# Altium schematic symbol library MCUs.SchLib: 3 symbols
Pins are listed as number, name and electrical type; pins without a type are passive.

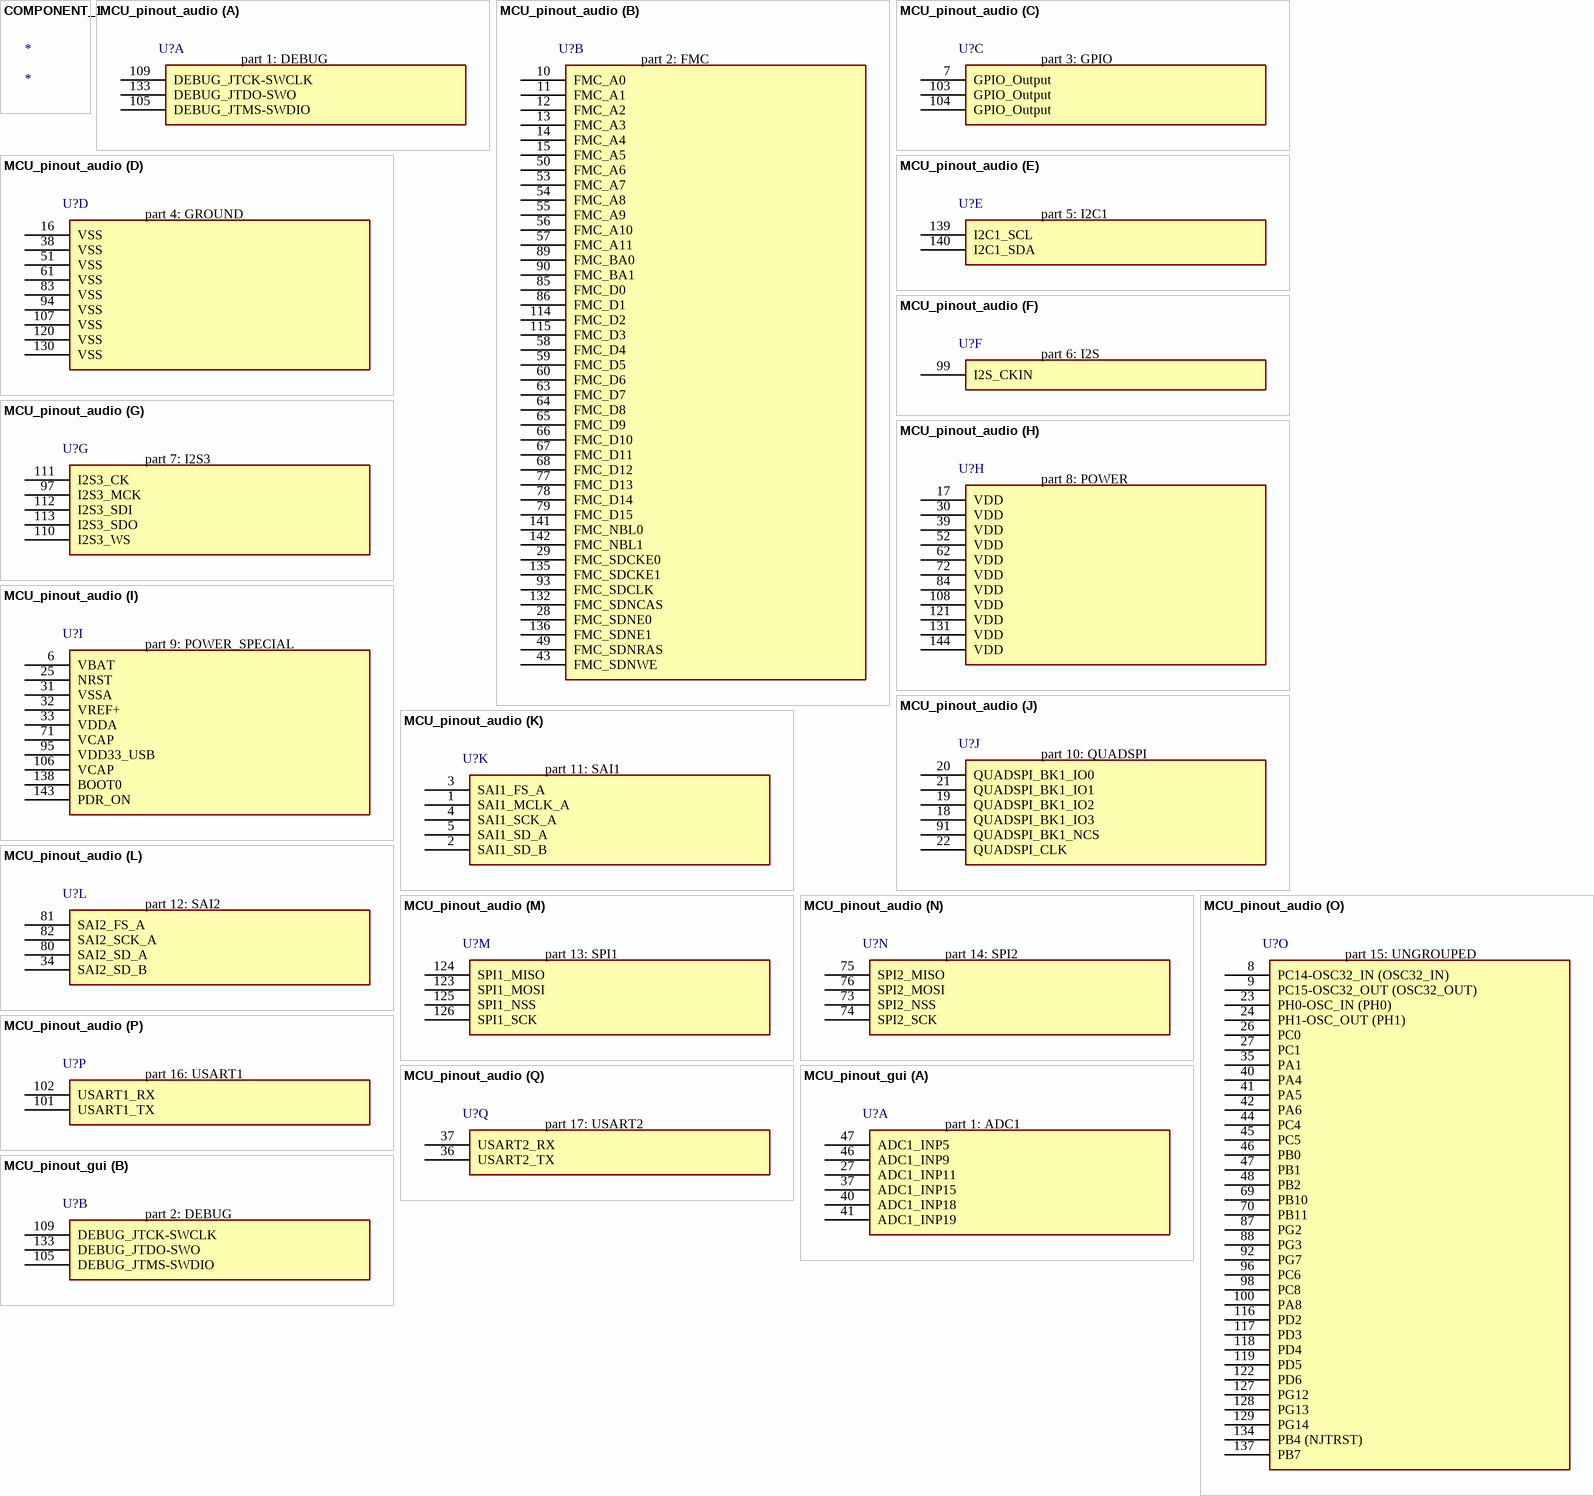
[diagram p0: symbols COMPONENT_1 to MCU_pinout_gui]

## COMPONENT_1
designator *

## MCU_pinout_audio
designator U?  (value not drawn)
MCU with 144 pins / Grouped by function
footprint QFP50P2200X2200X160-144N
part A pins: 105 DEBUG_JTMS-SWDIO, 109 DEBUG_JTCK-SWCLK, 133 DEBUG_JTDO-SWO
part B pins: 10 FMC_A0, 11 FMC_A1, 12 FMC_A2, 13 FMC_A3, 14 FMC_A4, 15 FMC_A5, 28 FMC_SDNE0, 29 FMC_SDCKE0, 43 FMC_SDNWE, 49 FMC_SDNRAS, 50 FMC_A6, 53 FMC_A7, 54 FMC_A8, 55 FMC_A9, 56 FMC_A10, 57 FMC_A11, 58 FMC_D4, 59 FMC_D5, 60 FMC_D6, 63 FMC_D7, 64 FMC_D8, 65 FMC_D9, 66 FMC_D10, 67 FMC_D11, 68 FMC_D12, 77 FMC_D13, 78 FMC_D14, 79 FMC_D15, 85 FMC_D0, 86 FMC_D1, 89 FMC_BA0, 90 FMC_BA1, 93 FMC_SDCLK, 114 FMC_D2, 115 FMC_D3, 132 FMC_SDNCAS, 135 FMC_SDCKE1, 136 FMC_SDNE1, 141 FMC_NBL0, 142 FMC_NBL1
part C pins: 7 GPIO_Output, 103 GPIO_Output, 104 GPIO_Output
part D pins: 16 VSS, 38 VSS, 51 VSS, 61 VSS, 83 VSS, 94 VSS, 107 VSS, 120 VSS, 130 VSS
part E pins: 139 I2C1_SCL, 140 I2C1_SDA
part F pins: 99 I2S_CKIN
part G pins: 97 I2S3_MCK, 110 I2S3_WS, 111 I2S3_CK, 112 I2S3_SDI, 113 I2S3_SDO
part H pins: 17 VDD, 30 VDD, 39 VDD, 52 VDD, 62 VDD, 72 VDD, 84 VDD, 108 VDD, 121 VDD, 131 VDD, 144 VDD
part I pins: 6 VBAT, 25 NRST, 31 VSSA, 32 VREF+, 33 VDDA, 71 VCAP, 95 VDD33_USB, 106 VCAP, 138 BOOT0, 143 PDR_ON
part J pins: 18 QUADSPI_BK1_IO3, 19 QUADSPI_BK1_IO2, 20 QUADSPI_BK1_IO0, 21 QUADSPI_BK1_IO1, 22 QUADSPI_CLK, 91 QUADSPI_BK1_NCS
part K pins: 1 SAI1_MCLK_A, 2 SAI1_SD_B, 3 SAI1_FS_A, 4 SAI1_SCK_A, 5 SAI1_SD_A
part L pins: 34 SAI2_SD_B, 80 SAI2_SD_A, 81 SAI2_FS_A, 82 SAI2_SCK_A
part M pins: 123 SPI1_MOSI, 124 SPI1_MISO, 125 SPI1_NSS, 126 SPI1_SCK
part N pins: 73 SPI2_NSS, 74 SPI2_SCK, 75 SPI2_MISO, 76 SPI2_MOSI
part O pins: 8 PC14-OSC32_IN (OSC32_IN), 9 PC15-OSC32_OUT (OSC32_OUT), 23 PH0-OSC_IN (PH0), 24 PH1-OSC_OUT (PH1), 26 PC0, 27 PC1, 35 PA1, 40 PA4, 41 PA5, 42 PA6, 44 PC4, 45 PC5, 46 PB0, 47 PB1, 48 PB2, 69 PB10, 70 PB11, 87 PG2, 88 PG3, 92 PG7, 96 PC6, 98 PC8, 100 PA8, 116 PD2, 117 PD3, 118 PD4, 119 PD5, 122 PD6, 127 PG12, 128 PG13, 129 PG14, 134 PB4 (NJTRST), 137 PB7
part P pins: 101 USART1_TX, 102 USART1_RX
part Q pins: 36 USART2_TX, 37 USART2_RX
part A text: part 1: DEBUG
part B text: part 2: FMC
part C text: part 3: GPIO
part D text: part 4: GROUND
part E text: part 5: I2C1
part F text: part 6: I2S
part G text: part 7: I2S3
part H text: part 8: POWER
part I text: part 9: POWER_SPECIAL
part J text: part 10: QUADSPI
part K text: part 11: SAI1
part L text: part 12: SAI2
part M text: part 13: SPI1
part N text: part 14: SPI2
part O text: part 15: UNGROUPED
part P text: part 16: USART1
part Q text: part 17: USART2

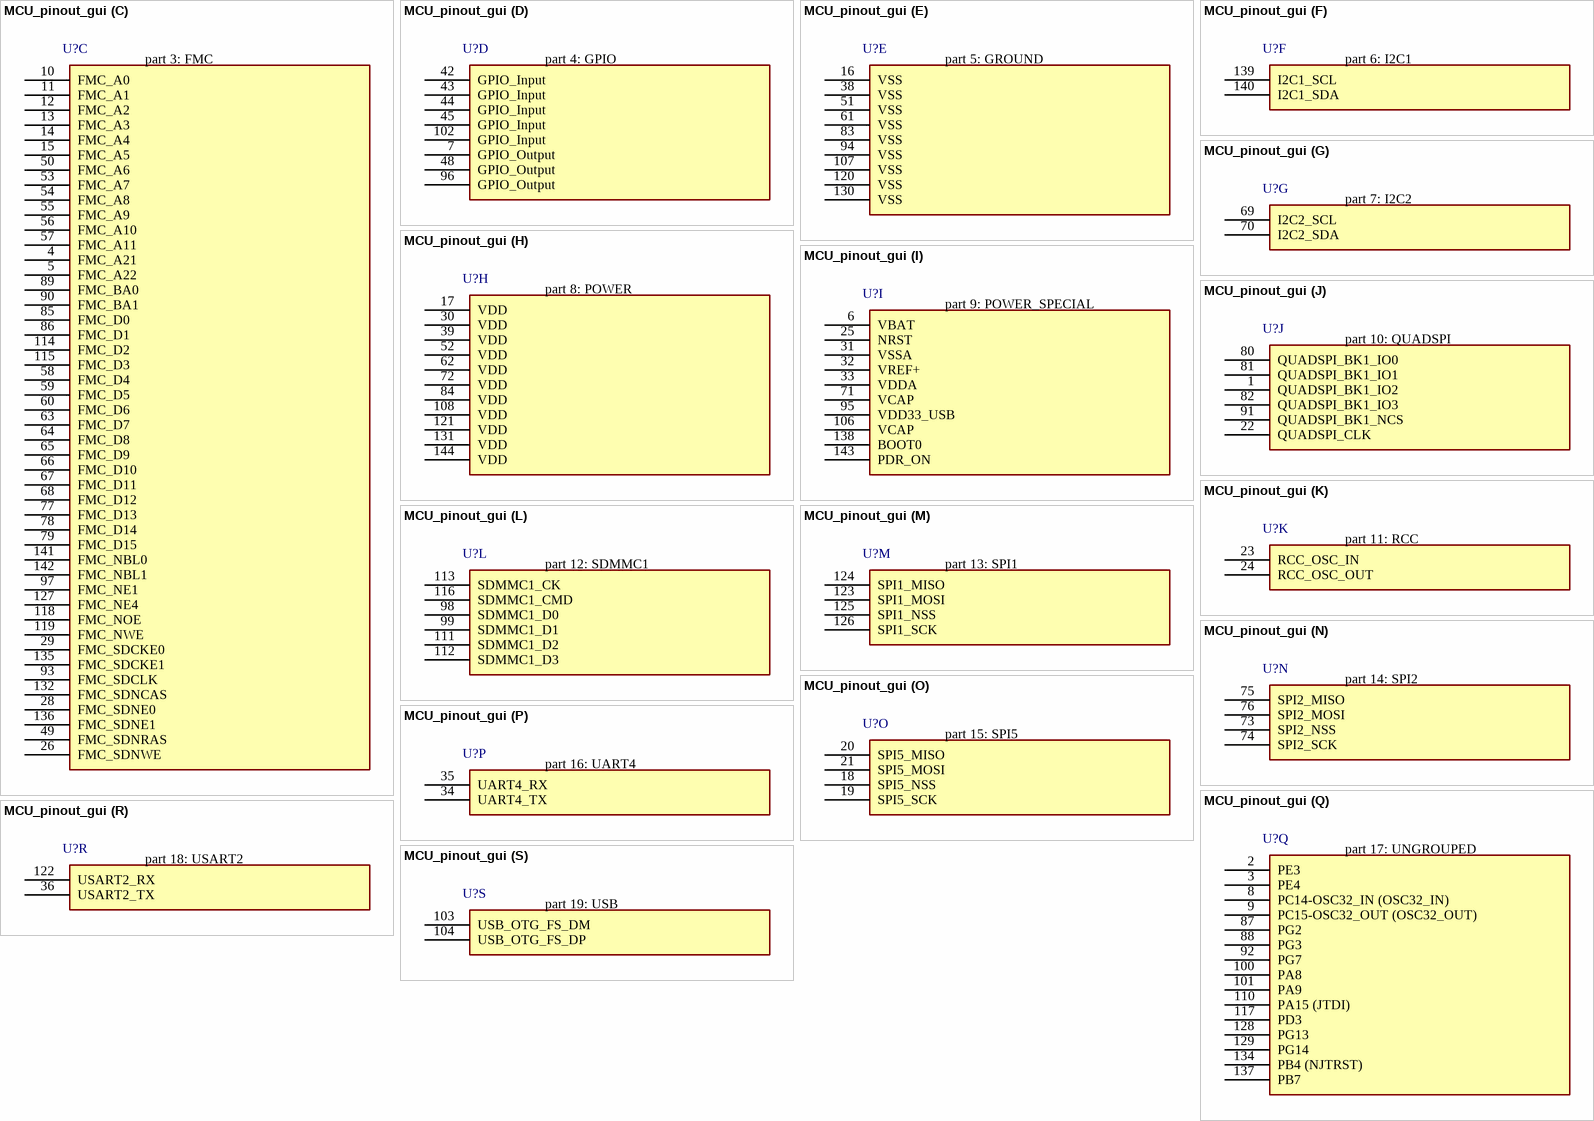
[diagram p1: symbol MCU_pinout_gui]

## MCU_pinout_gui
designator U?  (value not drawn)
MCU with 144 pins / Grouped by function
footprint QFP50P2200X2200X160-144N
part A pins: 27 ADC1_INP11, 37 ADC1_INP15, 40 ADC1_INP18, 41 ADC1_INP19, 46 ADC1_INP9, 47 ADC1_INP5
part B pins: 105 DEBUG_JTMS-SWDIO, 109 DEBUG_JTCK-SWCLK, 133 DEBUG_JTDO-SWO
part C pins: 4 FMC_A21, 5 FMC_A22, 10 FMC_A0, 11 FMC_A1, 12 FMC_A2, 13 FMC_A3, 14 FMC_A4, 15 FMC_A5, 26 FMC_SDNWE, 28 FMC_SDNE0, 29 FMC_SDCKE0, 49 FMC_SDNRAS, 50 FMC_A6, 53 FMC_A7, 54 FMC_A8, 55 FMC_A9, 56 FMC_A10, 57 FMC_A11, 58 FMC_D4, 59 FMC_D5, 60 FMC_D6, 63 FMC_D7, 64 FMC_D8, 65 FMC_D9, 66 FMC_D10, 67 FMC_D11, 68 FMC_D12, 77 FMC_D13, 78 FMC_D14, 79 FMC_D15, 85 FMC_D0, 86 FMC_D1, 89 FMC_BA0, 90 FMC_BA1, 93 FMC_SDCLK, 97 FMC_NE1, 114 FMC_D2, 115 FMC_D3, 118 FMC_NOE, 119 FMC_NWE, 127 FMC_NE4, 132 FMC_SDNCAS, 135 FMC_SDCKE1, 136 FMC_SDNE1, 141 FMC_NBL0, 142 FMC_NBL1
part D pins: 7 GPIO_Output, 42 GPIO_Input, 43 GPIO_Input, 44 GPIO_Input, 45 GPIO_Input, 48 GPIO_Output, 96 GPIO_Output, 102 GPIO_Input
part E pins: 16 VSS, 38 VSS, 51 VSS, 61 VSS, 83 VSS, 94 VSS, 107 VSS, 120 VSS, 130 VSS
part F pins: 139 I2C1_SCL, 140 I2C1_SDA
part G pins: 69 I2C2_SCL, 70 I2C2_SDA
part H pins: 17 VDD, 30 VDD, 39 VDD, 52 VDD, 62 VDD, 72 VDD, 84 VDD, 108 VDD, 121 VDD, 131 VDD, 144 VDD
part I pins: 6 VBAT, 25 NRST, 31 VSSA, 32 VREF+, 33 VDDA, 71 VCAP, 95 VDD33_USB, 106 VCAP, 138 BOOT0, 143 PDR_ON
part J pins: 1 QUADSPI_BK1_IO2, 22 QUADSPI_CLK, 80 QUADSPI_BK1_IO0, 81 QUADSPI_BK1_IO1, 82 QUADSPI_BK1_IO3, 91 QUADSPI_BK1_NCS
part K pins: 23 RCC_OSC_IN, 24 RCC_OSC_OUT
part L pins: 98 SDMMC1_D0, 99 SDMMC1_D1, 111 SDMMC1_D2, 112 SDMMC1_D3, 113 SDMMC1_CK, 116 SDMMC1_CMD
part M pins: 123 SPI1_MOSI, 124 SPI1_MISO, 125 SPI1_NSS, 126 SPI1_SCK
part N pins: 73 SPI2_NSS, 74 SPI2_SCK, 75 SPI2_MISO, 76 SPI2_MOSI
part O pins: 18 SPI5_NSS, 19 SPI5_SCK, 20 SPI5_MISO, 21 SPI5_MOSI
part P pins: 34 UART4_TX, 35 UART4_RX
part Q pins: 2 PE3, 3 PE4, 8 PC14-OSC32_IN (OSC32_IN), 9 PC15-OSC32_OUT (OSC32_OUT), 87 PG2, 88 PG3, 92 PG7, 100 PA8, 101 PA9, 110 PA15 (JTDI), 117 PD3, 128 PG13, 129 PG14, 134 PB4 (NJTRST), 137 PB7
part R pins: 36 USART2_TX, 122 USART2_RX
part S pins: 103 USB_OTG_FS_DM, 104 USB_OTG_FS_DP
part A text: part 1: ADC1
part B text: part 2: DEBUG
part C text: part 3: FMC
part D text: part 4: GPIO
part E text: part 5: GROUND
part F text: part 6: I2C1
part G text: part 7: I2C2
part H text: part 8: POWER
part I text: part 9: POWER_SPECIAL
part J text: part 10: QUADSPI
part K text: part 11: RCC
part L text: part 12: SDMMC1
part M text: part 13: SPI1
part N text: part 14: SPI2
part O text: part 15: SPI5
part P text: part 16: UART4
part Q text: part 17: UNGROUPED
part R text: part 18: USART2
part S text: part 19: USB